# Altium footprint library Inductor15uH.PcbLib: 1 footprints
Each footprint in its own frame and in the unit in brackets; x right, y up, seen from the top. Pads: shape width x height; smd on the part's side, far side on the other; paste and mask are expansions set on the pad; w line width, h text height; cw(c..) or ccw(c..) is an arc to the next point about the centre after c.
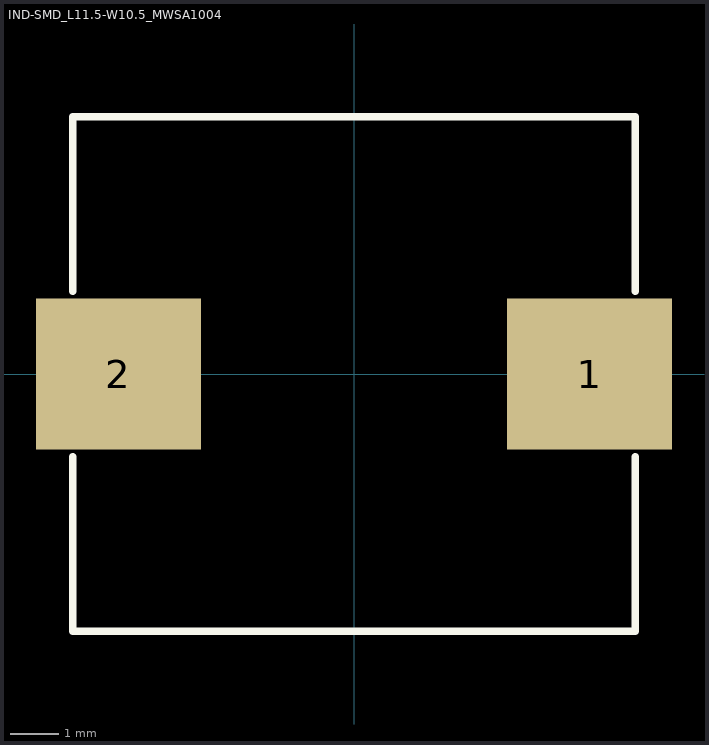
[diagram p0: the footprint, top view; thin cyan lines are the x and y axes]

## IND-SMD_L11.5-W10.5_MWSA1004 [mm]
pads (2):
  rect 3.424x3.12 smd: 1(4.878,0) 2(-4.878,0)
Top Overlay:
  lines w0.152: -5.826,-1.712 -5.826,-5.326 5.826,-5.326 5.826,-1.712 ; -5.826,1.712 -5.826,5.326 5.826,5.326 5.826,1.712